# EAGLE library part CMUTOSC_8_LG (library ck)
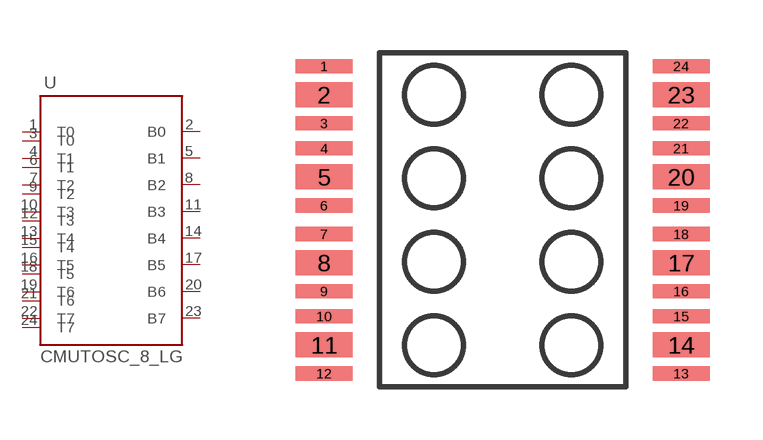
[diagram p14: symbol with the pads of CMUTOSC_8_LG; footprint CMUTOSC_8_LG]

Designator prefix U

## CMUTOSC_8_LG  [CMUTOSC_8_LG]
1  T0
2  B0
3  T0
4  T1
5  B1
6  T1
7  T2
8  B2
9  T2
10  T3
11  B3
12  T3
13  T4
14  B4
15  T4
16  T5
17  B5
18  T5
19  T6
20  B6
21  T6
22  T7
23  B7
24  T7

## Footprint CMUTOSC_8_LG (pad centres in mm)
smd 1.626 x 0.406: 1 -5.08,4.369; 3 -5.08,2.743; 4 -5.08,2.032; 6 -5.08,0.406; 7 -5.08,-0.406; 9 -5.08,-2.032; 10 -5.08,-2.743; 12 -5.08,-4.369; 13 5.08,-4.369; 15 5.08,-2.743; 16 5.08,-2.032; 18 5.08,-0.406; 19 5.08,0.406; 21 5.08,2.032; 22 5.08,2.743; 24 5.08,4.369
smd 1.626 x 0.711: 2 -5.08,3.556; 5 -5.08,1.219; 8 -5.08,-1.219; 11 -5.08,-3.556; 14 5.08,-3.556; 17 5.08,-1.219; 20 5.08,1.219; 23 5.08,3.556